# Altium footprint library Power_Control.PcbLib: 1 footprints
Each footprint in its own frame and in the unit in brackets; x right, y up, seen from the top. Pads: shape width x height; smd on the part's side, far side on the other; paste and mask are expansions set on the pad; w line width, h text height; cw(c..) or ccw(c..) is an arc to the next point about the centre after c.
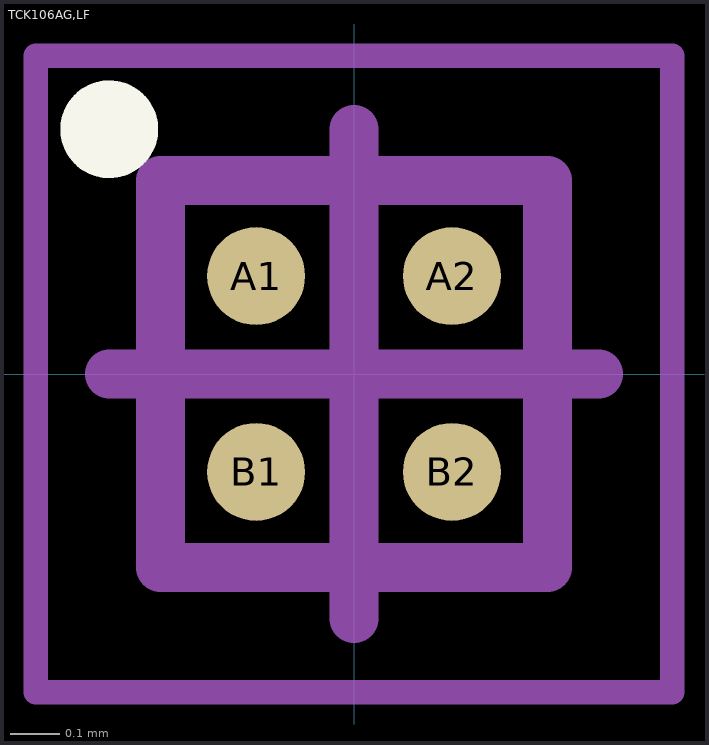
[diagram p0: the footprint, top view; thin cyan lines are the x and y axes]

## TCK106AG,LF [mm] "BGA, 4-Leads, Body 0.79x0.79mmx0.35mm, Pitch 0.40mm"
height 0.35
pads (4):
  round 0.2 smd: A1(-0.2,0.2) A2(0.2,0.2) B1(-0.2,-0.2) B2(0.2,-0.2)
Top Overlay:
  circle w0.1: c-0.5,0.5 r0.05
Top Designator:
  text ".Designator" at -5.998,-0.4 h1.2
Mechanical 13:
  lines w0.1: -0.395,-0.395 0.395,-0.395 0.395,0.395 -0.395,0.395 -0.395,-0.395
Mechanical 15:
  lines w0.05: -0.65,-0.65 0.65,-0.65 0.65,0.65 -0.65,0.65 -0.65,-0.65
  lines w0.1: -0.5,0 0.5,0 ; 0,-0.5 0,0.5
3D body "BGA4C40P2X2_79X79X35.step": height 0.35, standoff 0, extent -0.395,-0.395 0.395,0.395